# EAGLE library part HD-K123 (library display-hp)
LED DISPLAY 2 x 1 character 7 segment, decimal points right
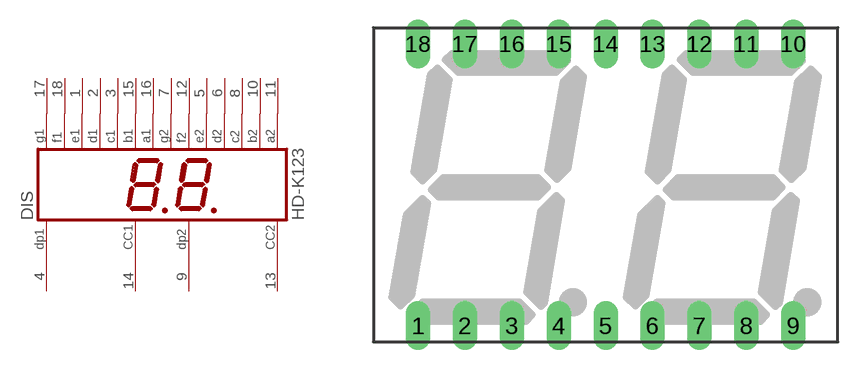
[diagram p26: symbol with the pads of HDSP-R; footprint HDSP-R]

Designator prefix DIS

## HD-K123 (OC_FARNELL: unknown; OC_NEWARK: unknown)  [HDSP-R]
1  E1  pas
2  D1  pas
3  C1  pas
4  DP1  pas
5  E2  pas
6  D2  pas
7  G2  pas
8  C2  pas
9  DP2  pas
10  B2  pas
11  A2  pas
12  F2  pas
13  CC2  pas
14  CC1  pas
15  B1  pas
16  A1  pas
17  G1  pas
18  F1  pas

## Footprint HDSP-R (pad centres in mm)
LED DISPLAY 15-mm 2 character 7 segment, decimal point right
drill 0.813 long: 1 -10.16,-7.62; 2 -7.62,-7.62; 3 -5.08,-7.62; 4 -2.54,-7.62; 5 0,-7.62; 6 2.54,-7.62; 7 5.08,-7.62; 8 7.62,-7.62; 9 10.16,-7.62; 10 10.16,7.62; 11 7.62,7.62; 12 5.08,7.62; 13 2.54,7.62; 14 0,7.62; 15 -2.54,7.62; 16 -5.08,7.62; 17 -7.62,7.62; 18 -10.16,7.62